# Altium footprint library STM32F446RE_Footprints.PcbLib: 1 footprints
Each footprint in its own frame and in the unit in brackets; x right, y up, seen from the top. Pads: shape width x height; smd on the part's side, far side on the other; paste and mask are expansions set on the pad; w line width, h text height; cw(c..) or ccw(c..) is an arc to the next point about the centre after c.
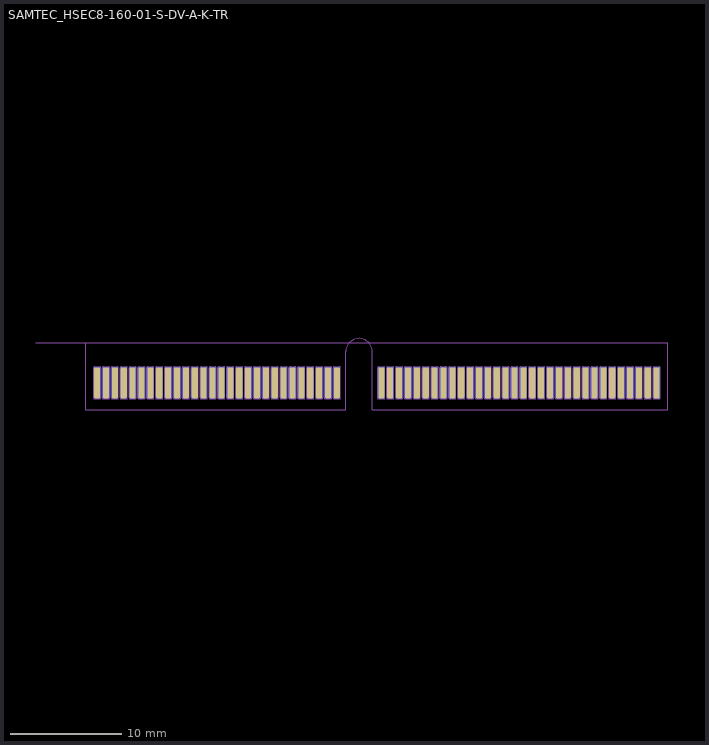
[diagram p0: the footprint, top view; thin cyan lines are the x and y axes]

## SAMTEC_HSEC8-160-01-S-DV-A-K-TR [mm]
pads (120):
  rrect50% 0.55x2.8 smd: 1(-1020.724,-1036.193) 2(-1019.924,-1036.193) 29(-995.124,-1036.193) 30(-994.324,-1036.193)
  rrect50% 0.55x2.8 smd paste+0: 3(-1019.124,-1036.193) 4(-1018.324,-1036.193) 5(-1017.524,-1036.193) 6(-1016.724,-1036.193) 7(-1015.924,-1036.193) 8(-1015.124,-1036.193) 9(-1014.324,-1036.193) 10(-1013.524,-1036.193) 11(-1012.724,-1036.193) 12(-1011.924,-1036.193) 13(-1011.124,-1036.193) 14(-1010.324,-1036.193) 15(-1009.524,-1036.193) 16(-1008.724,-1036.193) 17(-1007.924,-1036.193) 18(-1007.124,-1036.193) 19(-1006.324,-1036.193) 20(-1005.524,-1036.193) 21(-1004.724,-1036.193) 22(-1003.924,-1036.193) 23(-1003.124,-1036.193) 24(-1002.324,-1036.193) 25(-1001.524,-1036.193) 26(-1000.724,-1036.193) 27(-999.924,-1036.193) 28(-999.124,-1036.193) 31(-993.524,-1036.193) 32(-992.724,-1036.193) 33(-991.924,-1036.193) 34(-991.124,-1036.193) 35(-990.324,-1036.193) 36(-989.524,-1036.193) 37(-988.724,-1036.193) 38(-987.924,-1036.193) 39(-987.124,-1036.193) 40(-986.324,-1036.193) 41(-985.524,-1036.193) 42(-984.724,-1036.193) 43(-983.924,-1036.193) 44(-983.124,-1036.193) 45(-982.324,-1036.193) 46(-981.524,-1036.193) 47(-980.724,-1036.193) 48(-979.924,-1036.193) 49(-979.124,-1036.193) 50(-978.324,-1036.193) 51(-977.524,-1036.193) 52(-976.724,-1036.193) 53(-975.924,-1036.193) 54(-975.124,-1036.193) 55(-974.324,-1036.193) 56(-973.524,-1036.193) 57(-972.724,-1036.193) 58(-971.924,-1036.193) 59(-971.124,-1036.193) 60(-970.324,-1036.193)
  rrect50% 0.55x2.8 smd far side: 61(-1020.724,-1036.193) 62(-1019.924,-1036.193) 89(-995.124,-1036.193) 90(-994.324,-1036.193)
  rrect50% 0.55x2.8 smd far side paste+0: 63(-1019.124,-1036.193) 64(-1018.324,-1036.193) 65(-1017.524,-1036.193) 66(-1016.724,-1036.193) 67(-1015.924,-1036.193) 68(-1015.124,-1036.193) 69(-1014.324,-1036.193) 70(-1013.524,-1036.193) 71(-1012.724,-1036.193) 72(-1011.924,-1036.193) 73(-1011.124,-1036.193) 74(-1010.324,-1036.193) 75(-1009.524,-1036.193) 76(-1008.724,-1036.193) 77(-1007.924,-1036.193) 78(-1007.124,-1036.193) 79(-1006.324,-1036.193) 80(-1005.524,-1036.193) 81(-1004.724,-1036.193) 82(-1003.924,-1036.193) 83(-1003.124,-1036.193) 84(-1002.324,-1036.193) 85(-1001.524,-1036.193) 86(-1000.724,-1036.193) 87(-999.924,-1036.193) 88(-999.124,-1036.193) 91(-993.524,-1036.193) 92(-992.724,-1036.193) 93(-991.924,-1036.193) 94(-991.124,-1036.193) 95(-990.324,-1036.193) 96(-989.524,-1036.193) 97(-988.724,-1036.193) 98(-987.924,-1036.193) 99(-987.124,-1036.193) 100(-986.324,-1036.193) 101(-985.524,-1036.193) 102(-984.724,-1036.193) 103(-983.924,-1036.193) 104(-983.124,-1036.193) 105(-982.324,-1036.193) 106(-981.524,-1036.193) 107(-980.724,-1036.193) 108(-979.924,-1036.193) 109(-979.124,-1036.193) 110(-978.324,-1036.193) 111(-977.524,-1036.193) 112(-976.724,-1036.193) 113(-975.924,-1036.193) 114(-975.124,-1036.193) 115(-974.324,-1036.193) 116(-973.524,-1036.193) 117(-972.724,-1036.193) 118(-971.924,-1036.193) 119(-971.124,-1036.193) 120(-970.324,-1036.193)
Mechanical 1:
  lines w0.013: -1021.744,-1038.594 -1021.744,-1033.594
Mechanical 2:
  drawing of 480 lines, arcs and shapes, not listed
Mechanical 9:
  lines w0.013: -969.304,-1033.594 -969.304,-1038.594 ; -1021.744,-1038.594 -998.324,-1038.594 ; -1021.744,-1038.594 -998.324,-1038.594 ; -1021.744,-1038.594 -998.324,-1038.594 ; -1021.744,-1038.594 -1021.744,-1032.594 ; -1021.744,-1038.594 -1021.744,-1032.594 ; -1021.744,-1032.594 -969.304,-1032.594 ; -1021.744,-1032.594 -1026.244,-1032.594 -1021.744,-1032.594 ; -998.324,-1038.594 -998.324,-1033.394 ; -998.324,-1038.594 -998.324,-1033.394 ; -998.324,-1038.594 -998.324,-1033.394 ; -998.324,-1033.394 cw(c-997.124,-1033.394) -995.924,-1033.394 ; -998.324,-1033.394 cw(c-997.124,-1033.394) -995.924,-1033.394 ; -998.324,-1033.394 cw(c-997.124,-1033.394) -995.924,-1033.394 ; -995.924,-1038.594 -969.304,-1038.594 ; -995.924,-1038.594 -969.304,-1038.594 ; -995.924,-1038.594 -969.304,-1038.594 ; -995.924,-1038.594 -995.924,-1033.394 ; -995.924,-1038.594 -995.924,-1033.394 ; -995.924,-1038.594 -995.924,-1033.394 ; -969.304,-1038.594 -969.304,-1032.594 ; -969.304,-1038.594 -969.304,-1032.594
Mechanical 82:
  drawing of 480 lines, arcs and shapes, not listed